# EAGLE library part USB-MICRO-A (library squirrel)
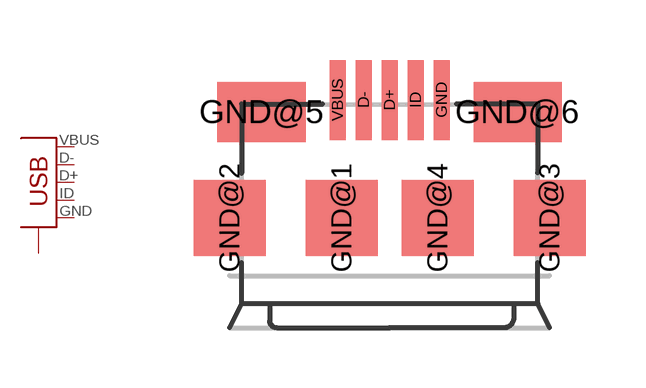
[diagram p19: symbol with the pads of USB-MICROB; footprint USB-MICROB]

Designator prefix CON

## USB-MICRO-A  [USB-MICROB]
D+  D+
D-  D-
GND  GND
GND@1  GND  pwr
GND@2  GND  pwr
GND@3  GND  pwr
GND@4  GND  pwr
GND@5  GND  pwr
GND@6  GND  pwr
ID  ID
VBUS  VBUS

## Footprint USB-MICROB (pad centres in mm)
Micro USB Package
smd 0.4 x 2: D+ 0,2.9; D- -0.65,2.9; GND 1.3,2.9; ID 0.65,2.9; VBUS -1.3,2.9
smd 1.8 x 1.9: GND@1 -1.2,-0.05; GND@2 -4,-0.05; GND@3 4,-0.05; GND@4 1.2,-0.05
smd 2.2 x 1.5: GND@5 -3.2,2.6; GND@6 3.2,2.6